# EAGLE library part 4EXP-VCA-2164 (library XM8)
4 channel exponential VCA, based on the 2164
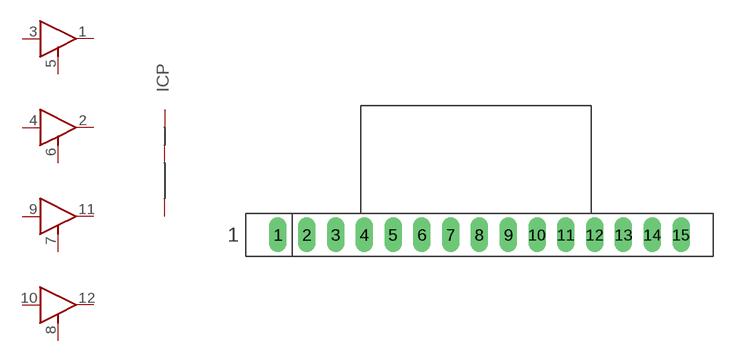
[diagram p8: symbol with the pads of XM8-QUAD-AMP-2164V; footprint XM8-QUAD-AMP-2164V]

Designator prefix IC; gates G$1=XM8-AMP G$2=XM8-AMP G$3=XM8-AMP G$4=XM8-AMP P=XM8-PWR

## 4EXP-VCA-2164V  [XM8-QUAD-AMP-2164V]
1  G$1:O
2  G$2:O
3  G$1:I
4  G$2:I
5  G$1:C
6  G$2:C
7  G$3:C
8  G$4:C
9  G$3:I
10  G$4:I
11  G$3:O
12  G$4:O
13  P:-V  pwr
14  P:+V  pwr
15  P:AGND  pwr

## Footprint XM8-QUAD-AMP-2164V (pad centres in mm)
Xonik Quad Exponential VCA (2164), vertical mount
drill 1.016 long: 1 -16.51,0; 2 -13.97,0; 3 -11.43,0; 4 -8.89,0; 5 -6.35,0; 6 -3.81,0; 7 -1.27,0; 8 1.27,0; 9 3.81,0; 10 6.35,0; 11 8.89,0; 12 11.43,0; 13 13.97,0; 14 16.51,0; 15 19.05,0